# EAGLE library part PTH08T260W (library BMC components)
TI PTH08T260W: 3-A, 4.5-Vto14-VINPUT, NON-ISOLATED, WIDE-OUTPUT, ADJUSTABLE POWER MODULE Datasheet: http://www.ti.com/lit/ds/symlink/pth08t260w.pdf Website: http://www.ti.com/product/pth08t260w
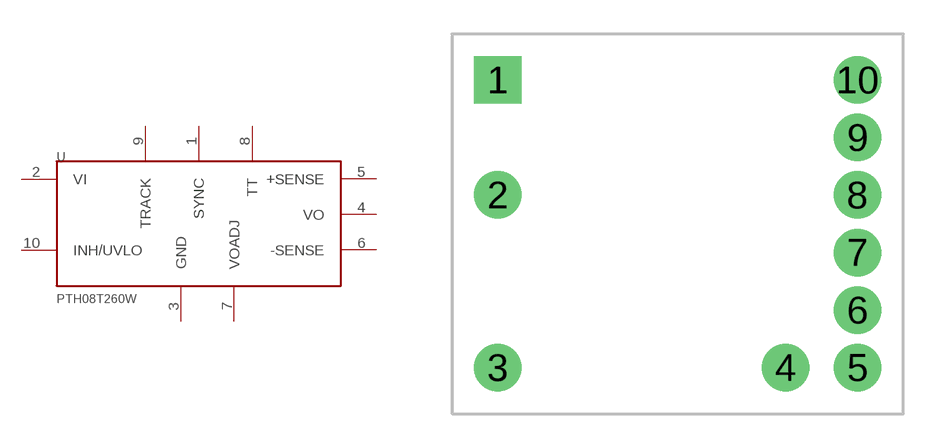
[diagram p16: symbol with the pads of TI_PTH08T260W; footprint TI_PTH08T260W]

Designator prefix -

## PTH08T260W  [TI_PTH08T260W]
1  SYNC  in
2  VI  pwr
3  GND  pwr
4  VO  pwr
5  +SENSE  in
6  -SENSE  in
7  VOADJ
8  TT  in
9  TRACK  in
10  INH/UVLO

## Footprint TI_PTH08T260W (pad centres in mm)
PTH08T260W - through-hole Datasheet: http://www.ti.com/lit/ds/symlink/pth08t260w.pdf
drill 1.397 square: 1 0,12.7
drill 1.397 round: 2 0,7.62; 3 0,0; 4 12.7,0; 5 15.875,0; 6 15.875,2.54; 7 15.875,5.08; 8 15.875,7.62; 9 15.875,10.16; 10 15.875,12.7